# Altium schematic symbol library Мосты диодные.SchLib: 4 symbols
Pins are listed as number, name and electrical type; pins without a type are passive.

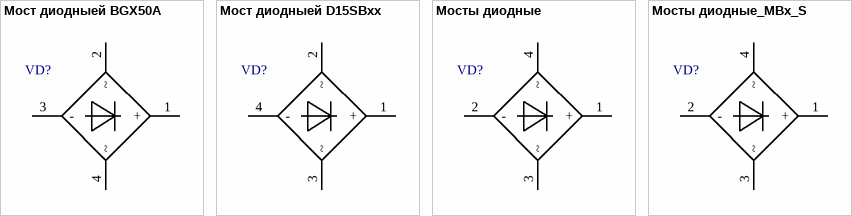
[diagram p0: symbols Мост диодныей BGX50A to Мосты диодные_MBx_S]

## Мост диодныей BGX50A
designator VD?  (value not drawn)
pins: 1 +, 2 ~, 3 -, 4 ~

## Мост диодныей D15SBxx
designator VD?  (value not drawn)
pins: 1 +, 2 ~, 3 ~, 4 -

## Мосты диодные
designator VD?  (value not drawn)
pins: 1 +, 2 -, 3 ~, 4 ~

## Мосты диодные_MBx_S
designator VD?  (value not drawn)
pins: 1 +, 2 -, 3 ~, 4 ~